# Altium footprint library 1730_MecParts.PcbLib: 9 footprints
Each footprint in its own frame and in the unit in brackets; x right, y up, seen from the top. Pads: shape width x height; smd on the part's side, far side on the other; paste and mask are expansions set on the pad; w line width, h text height; cw(c..) or ccw(c..) is an arc to the next point about the centre after c.

## Face Arriere [mm] "Panneau de face arriere"
3D body "Face arriere PMMA.SLDPRT": height 9, standoff 6, extent 0,-100 100,0

## Face AV Door [mm] "Panel de face avant gravee (door)"
3D body "Face avant Gravoply OUT.SLDPRT": height 15.9, standoff 14.3, extent 0,0 100,100

## Face avant Bell [mm] "Panel de face avant gravee (door)"
3D body "Face avant Gravoply IN.SLDPRT": height 15.9, standoff 14.3, extent 0,0 100,100

## Light Guide LFC050 [mm] "Light huide pour panneau"
3D body "LFC 050 CTP.STEP": height 17.27, standoff 3.3, extent -2.502,-2.629 2.502,2.375

## M3x05_MF_971050365 [mm]
3D body "M3x05_MF_971050365.stp": height 4.7, standoff -8.3, extent -3.464,-3 3.464,3

## M3x06 Screw Height_8 [mm] "M3x05 a h=8mm"
3D body "M3x06_Countersunk.step": height 9, standoff 3, extent -2.8,-2.8 2.8,2.8

## M3x06 Screw Height_16 [mm] "M3x05 a h=15.9mm"
3D body "M3x06_Countersunk.step": height 15.9, standoff 9.9, extent -2.8,-2.8 2.8,2.8

## M3X06_MF_971060365 [mm]
3D body "M3x06_MF_971060365.stp": height 8, standoff -6, extent -3.464,-3 3.464,3

## M3x14_FF_970140365 [mm]
3D body "M3x14_FF_970140365.stp": height 14, standoff 0, extent -3.464,-3 3.464,3